# EAGLE library part MKL05Z32VFK4 (library modular_robotics)
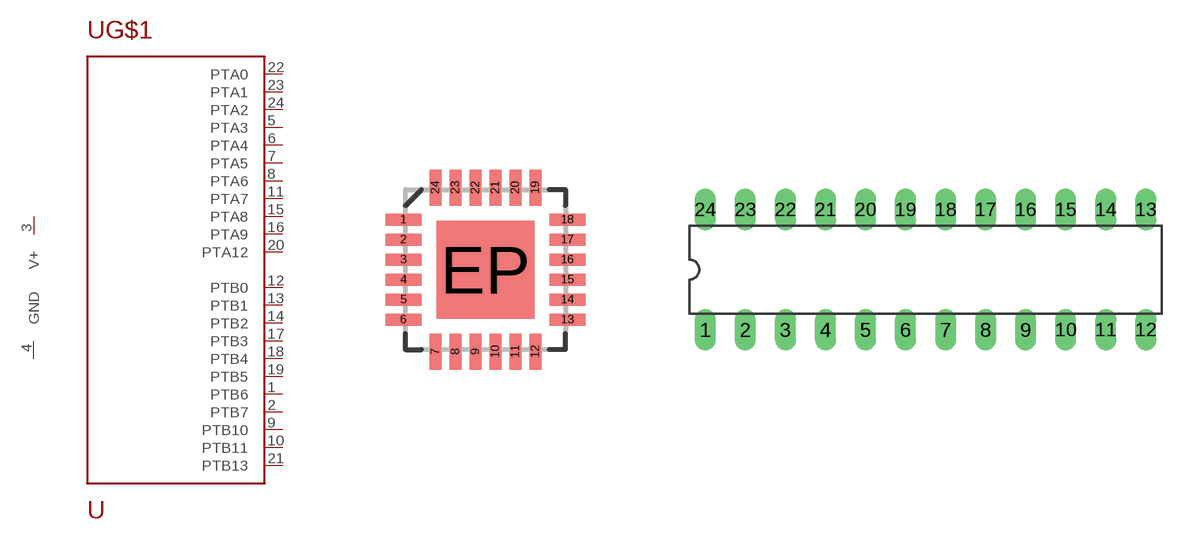
[diagram p2: symbol with the pads of QFN-24; footprints QFN-24, DIL24-3]

Designator prefix -; gates G$1=MKL05Z32VFK4 G$2=PWR+G

## MKL05Z32VFK4-QFN  [QFN-24]
1  G$1:PTB6
2  G$1:PTB7
3  G$2:V+  pwr
4  G$2:GND  pwr
5  G$1:PTA3
6  G$1:PTA4
7  G$1:PTA5
8  G$1:PTA6
9  G$1:PTB10
10  G$1:PTB11
11  G$1:PTA7
12  G$1:PTB0
13  G$1:PTB1
14  G$1:PTB2
15  G$1:PTA8
16  G$1:PTA9
17  G$1:PTB3
18  G$1:PTB4
19  G$1:PTB5
20  G$1:PTA12
21  G$1:PTB13
22  G$1:PTA0
23  G$1:PTA1
24  G$1:PTA2

## MKL05Z32VFK4-DIP  [DIL24-3]
Pads as for QFN-24

## Footprint QFN-24 (pad centres in mm)
24-pin QFN with Exposed Thermal pad Parts that use this package: A6282 Last modified: 8/20/10 ***UNPROVEN***
smd 0.9 x 0.3: 1 -2.05,1.25; 2 -2.05,0.75; 3 -2.05,0.25; 4 -2.05,-0.25; 5 -2.05,-0.75; 6 -2.05,-1.25; 13 2.05,-1.25; 14 2.05,-0.75; 15 2.05,-0.25; 16 2.05,0.25; 17 2.05,0.75; 18 2.05,1.25
smd 0.3 x 0.9: 7 -1.25,-2.05; 8 -0.75,-2.05; 9 -0.25,-2.05; 10 0.25,-2.05; 11 0.75,-2.05; 12 1.25,-2.05; 19 1.25,2.05; 20 0.75,2.05; 21 0.25,2.05; 22 -0.25,2.05; 23 -0.75,2.05; 24 -1.25,2.05
smd 2.45 x 2.45: EP 0,0

## Footprint DIL24-3 (pad centres in mm)
Dual In Line Package 0.3 inch
drill 0.813 long: 1 -13.97,-3.81; 2 -11.43,-3.81; 3 -8.89,-3.81; 4 -6.35,-3.81; 5 -3.81,-3.81; 6 -1.27,-3.81; 7 1.27,-3.81; 8 3.81,-3.81; 9 6.35,-3.81; 10 8.89,-3.81; 11 11.43,-3.81; 12 13.97,-3.81; 13 13.97,3.81; 14 11.43,3.81; 15 8.89,3.81; 16 6.35,3.81; 17 3.81,3.81; 18 1.27,3.81; 19 -1.27,3.81; 20 -3.81,3.81; 21 -6.35,3.81; 22 -8.89,3.81; 23 -11.43,3.81; 24 -13.97,3.81